# EAGLE library part COLUMN9 (library expboard)
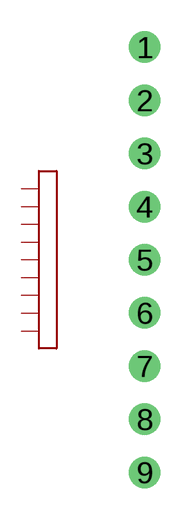
[diagram p3: symbol with the pads of COLUMN9; footprint COLUMN9]

Designator prefix -

## COLUMN9  [COLUMN9]
1  1
2  2
3  3
4  4
5  5
6  6
7  7
8  8
9  9

## Footprint COLUMN9 (pad centres in mm)
drill 1 round: 1 0,10.16; 2 0,7.62; 3 0,5.08; 4 0,2.54; 5 0,0; 6 0,-2.54; 7 0,-5.08; 8 0,-7.62; 9 0,-10.16